# EAGLE library part ENC28J60 (library microchip-priv)
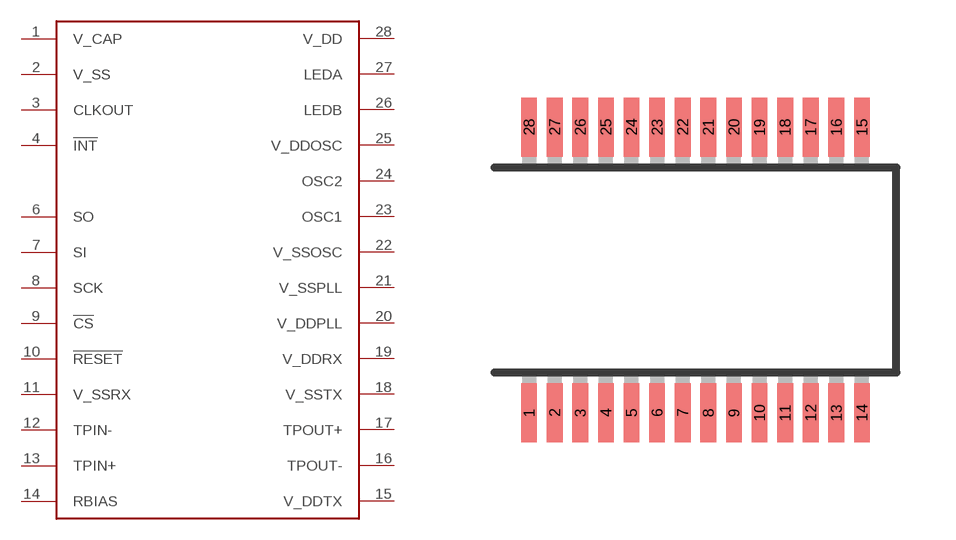
[diagram p1: symbol with the pads of SSOP28; footprint SSOP28]

Designator prefix -

## ENC28J60  [SSOP28]
1  V_CAP
2  V_SS
3  CLKOUT
4  !INT
6  SO
7  SI
8  SCK
9  !CS
10  !RESET
11  V_SSRX
12  TPIN-
13  TPIN+
14  RBIAS
15  V_DDTX
16  TPOUT-
17  TPOUT+
18  V_SSTX
19  V_DDRX
20  V_DDPLL
21  V_SSPLL
22  V_SSOSC
23  OSC1
24  OSC2
25  V_DDOSC
26  LEDB
27  LEDA
28  V_DD

## Footprint SSOP28 (pad centres in mm)
Shrink Small Outline Package package type SS
smd 0.4 x 1.5: 1 -4.225,-3.625; 2 -3.575,-3.625; 3 -2.925,-3.625; 4 -2.275,-3.625; 5 -1.625,-3.625; 6 -0.975,-3.625; 7 -0.325,-3.625; 8 0.325,-3.625; 9 0.975,-3.625; 10 1.625,-3.625; 11 2.275,-3.625; 12 2.925,-3.625; 13 3.575,-3.625; 14 4.225,-3.625; 15 4.225,3.625; 16 3.575,3.625; 17 2.925,3.625; 18 2.275,3.625; 19 1.625,3.625; 20 0.975,3.625; 21 0.325,3.625; 22 -0.325,3.625; 23 -0.975,3.625; 24 -1.625,3.625; 25 -2.275,3.625; 26 -2.925,3.625; 27 -3.575,3.625; 28 -4.225,3.625